# Altium footprint library STM32F405RGT6.PcbLib: 1 footprints
Each footprint in its own frame and in the unit in brackets; x right, y up, seen from the top. Pads: shape width x height; smd on the part's side, far side on the other; paste and mask are expansions set on the pad; w line width, h text height; cw(c..) or ccw(c..) is an arc to the next point about the centre after c.
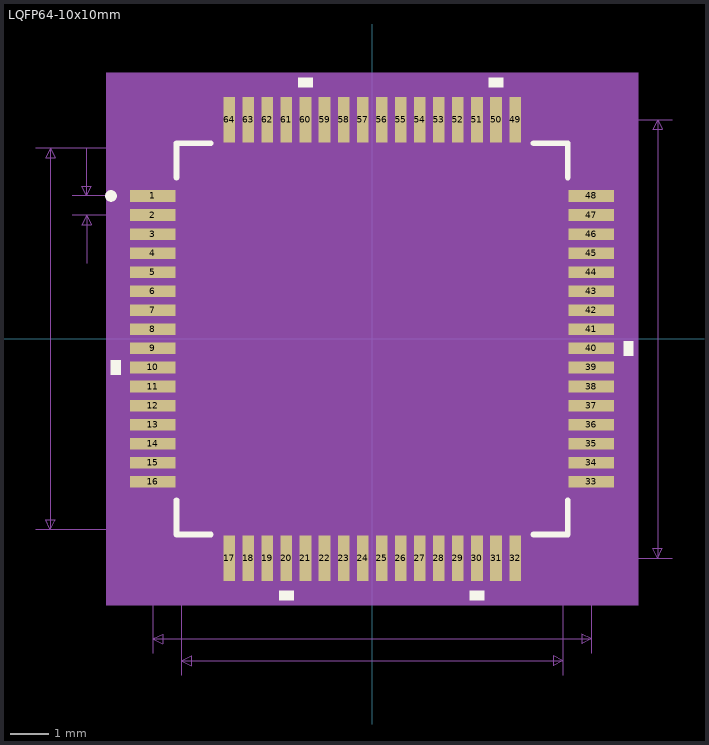
[diagram p0: the footprint, top view; thin cyan lines are the x and y axes]

## LQFP64-10x10mm [mm]
pads (64):
  rect 1.194x0.305 smd paste+0 mask+0: 1(-5.75,3.75) 2(-5.75,3.25) 3(-5.75,2.75) 4(-5.75,2.25) 5(-5.75,1.75) 6(-5.75,1.25) 7(-5.75,0.75) 8(-5.75,0.25) 9(-5.75,-0.25) 10(-5.75,-0.75) 11(-5.75,-1.25) 12(-5.75,-1.75) 13(-5.75,-2.25) 14(-5.75,-2.75) 15(-5.75,-3.25) 16(-5.75,-3.75) 33(5.75,-3.75) 34(5.75,-3.25) 35(5.75,-2.75) 36(5.75,-2.25) 37(5.75,-1.75) 38(5.75,-1.25) 39(5.75,-0.75) 40(5.75,-0.25) 41(5.75,0.25) 42(5.75,0.75) 43(5.75,1.25) 44(5.75,1.75) 45(5.75,2.25) 46(5.75,2.75) 47(5.75,3.25) 48(5.75,3.75)
  rect 0.305x1.194 smd paste+0 mask+0: 17(-3.75,-5.75) 18(-3.25,-5.75) 19(-2.75,-5.75) 20(-2.25,-5.75) 21(-1.75,-5.75) 22(-1.25,-5.75) 23(-0.75,-5.75) 24(-0.25,-5.75) 25(0.25,-5.75) 26(0.75,-5.75) 27(1.25,-5.75) 28(1.75,-5.75) 29(2.25,-5.75) 30(2.75,-5.75) 31(3.25,-5.75) 32(3.75,-5.75) 49(3.75,5.75) 50(3.25,5.75) 51(2.75,5.75) 52(2.25,5.75) 53(1.75,5.75) 54(1.25,5.75) 55(0.75,5.75) 56(0.25,5.75) 57(-0.25,5.75) 58(-0.75,5.75) 59(-1.25,5.75) 60(-1.75,5.75) 61(-2.25,5.75) 62(-2.75,5.75) 63(-3.25,5.75) 64(-3.75,5.75)
Top Overlay:
  circle w0.152: c-6.851,3.75 r0.076
  region: -6.601,-0.56 -6.855,-0.56 -6.855,-0.941 -6.601,-0.941
  region: -2.06,-6.601 -2.441,-6.601 -2.441,-6.855 -2.06,-6.855
  region: 2.94,-6.601 2.559,-6.601 2.559,-6.855 2.94,-6.855
  region: 6.601,-0.059 6.855,-0.059 6.855,-0.44 6.601,-0.44
  region: 3.441,6.601 3.06,6.601 3.06,6.855 3.441,6.855
  region: -1.559,6.601 -1.94,6.601 -1.94,6.855 -1.559,6.855
  lines w0.152: -5.131,-4.234 -5.131,-5.131 -4.234,-5.131 ; -5.131,4.234 -5.131,5.131 -4.234,5.131 ; 4.234,-5.131 5.131,-5.131 5.131,-4.234 ; 4.234,5.131 5.131,5.131 5.131,4.234
Mechanical 5:
  region: 6.982,-6.982 -6.982,-6.982 -6.982,6.982 6.982,6.982
Mechanical 7:
  lines w0.025: -8.823,-5.004 -3.75,-5.004 ; -8.823,5.004 -3.75,5.004 ; -7.871,3.25 -5.75,3.25 ; -7.871,3.75 -5.75,3.75 ; -7.49,1.98 -7.49,3.25 ; -7.49,5.02 -7.49,3.75 ; -5.75,-8.252 -5.75,-3.445 ; -5.004,-8.823 -5.004,-3.75 ; 4.055,-5.75 7.871,-5.75 ; 4.055,5.75 7.871,5.75 ; 5.004,-8.823 5.004,-3.75 ; 5.75,-8.252 5.75,-3.445 ; -8.442,-5.004 -8.442,5.004 ; -8.442,-5.004 -8.569,-4.75 -8.315,-4.75 -8.442,-5.004 ; -8.442,5.004 -8.569,4.75 -8.315,4.75 -8.442,5.004 ; -7.49,3.25 -7.617,2.996 -7.363,2.996 -7.49,3.25 ; -7.49,3.75 -7.617,4.004 -7.363,4.004 -7.49,3.75 ; -5.75,-7.871 5.75,-7.871 ; -5.75,-7.871 -5.496,-7.744 -5.496,-7.998 -5.75,-7.871 ; -5.004,-8.442 5.004,-8.442 ; -5.004,-8.442 -4.75,-8.315 -4.75,-8.569 -5.004,-8.442 ; 5.004,-8.442 4.75,-8.315 4.75,-8.569 5.004,-8.442 ; 5.75,-7.871 5.496,-7.744 5.496,-7.998 5.75,-7.871 ; 7.49,-5.75 7.49,5.75 ; 7.49,-5.75 7.363,-5.496 7.617,-5.496 7.49,-5.75 ; 7.49,5.75 7.363,5.496 7.617,5.496 7.49,5.75
  text "Default Padstyle: RX47Y12D0T" at -8.89,-12.951 h1.27
  text "Alt 1 Padstyle: OX60Y90D30P" at -8.572,-17.523 h1.27
  text "Alt 2 Padstyle: OX90Y60D30P" at -8.572,-19.047 h1.27
  text "0.02in/0.5mm" at -11.808,3.183 h0.64
  text "0.453in/11.5mm" at 7.998,-0.318 h0.64
  text "0.453in/11.5mm" at -2.222,-9.014 h0.64
  text "0.394in/10.008mm" at -2.54,-9.585 h0.64
  text "0.394in/10.008mm" at -14.03,-0.318 h0.64
Mechanical 13:
  circle w0: c-4.518,3.75 r0.076
  lines w0.025: -5.004,3.734 -3.734,5.004 ; -5.004,-5.004 5.004,-5.004 5.004,5.004 -5.004,5.004 -5.004,-5.004
Mechanical 15:
  region: -4.258,-5.258 -5.258,-5.258 -5.258,-4.258 -6.855,-4.258 -6.855,4.258 -5.258,4.258 -5.258,5.258 -4.258,5.258 -4.258,6.855 4.258,6.855 4.258,5.258 5.258,5.258 5.258,4.258 6.855,4.258 6.855,-4.258 5.258,-4.258 5.258,-5.258 4.258,-5.258 4.258,-6.855 -4.258,-6.855
  lines w0.152: -6.855,-4.258 -5.258,-4.258 -5.258,-5.258 -4.258,-5.258 -4.258,-6.855 4.258,-6.855 4.258,-5.258 5.258,-5.258 5.258,-4.258 6.855,-4.258 6.855,4.258 5.258,4.258 5.258,5.258 4.258,5.258 4.258,6.855 -4.258,6.855 -4.258,5.258 -5.258,5.258 -5.258,4.258 -6.855,4.258 -6.855,-4.258
3D body: height 0.25, standoff 0, extent 0,0 0.254,0.254